# Altium footprint library TO-268-3.PcbLib: 1 footprints
Each footprint in its own frame and in the unit in brackets; x right, y up, seen from the top. Pads: shape width x height; smd on the part's side, far side on the other; paste and mask are expansions set on the pad; w line width, h text height; cw(c..) or ccw(c..) is an arc to the next point about the centre after c.
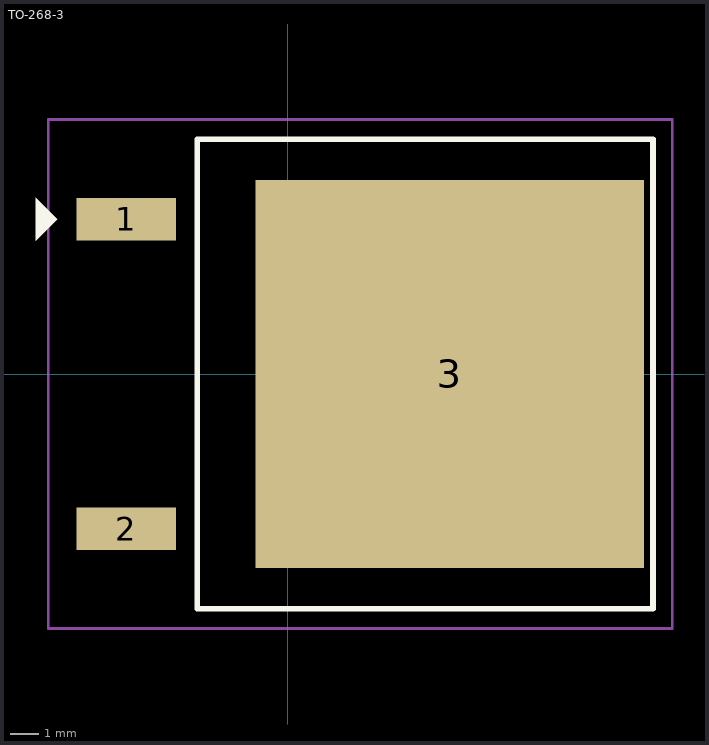
[diagram p0: the footprint, top view; thin cyan lines are the x and y axes]

## TO-268-3 [mm]
pads (3):
  rect 3.5x1.5 smd: 1(-5.705,5.45) 2(-5.705,-5.45)
  rect 13.7x13.7 smd paste-8: 3(5.705,0)
Top Overlay:
  region: -8.128,5.461 -8.89,6.223 -8.89,4.699
  lines w0.2: -3.195,-8.275 12.875,-8.275 12.875,8.275 -3.195,8.275 -3.195,-8.275
Top Paste:
  drawing of 42 lines, arcs and shapes, not listed
Top Courtyard:
  lines w0.1: -8.45,-8.975 -8.45,8.975 13.552,8.975 13.552,-6.852 13.552,-8.975 -7,-8.975 -8.45,-8.975
3D body "step_temp.STEP": height 5.1, standoff 0, extent -7.005,-7.975 11.895,7.975